# Altium footprint library Spadgenske.PcbLib: 18 footprints (part 1 of 2)
Each footprint in its own frame and in the unit in brackets; x right, y up, seen from the top. Pads: shape width x height; smd on the part's side, far side on the other; paste and mask are expansions set on the pad; w line width, h text height; cw(c..) or ccw(c..) is an arc to the next point about the centre after c.
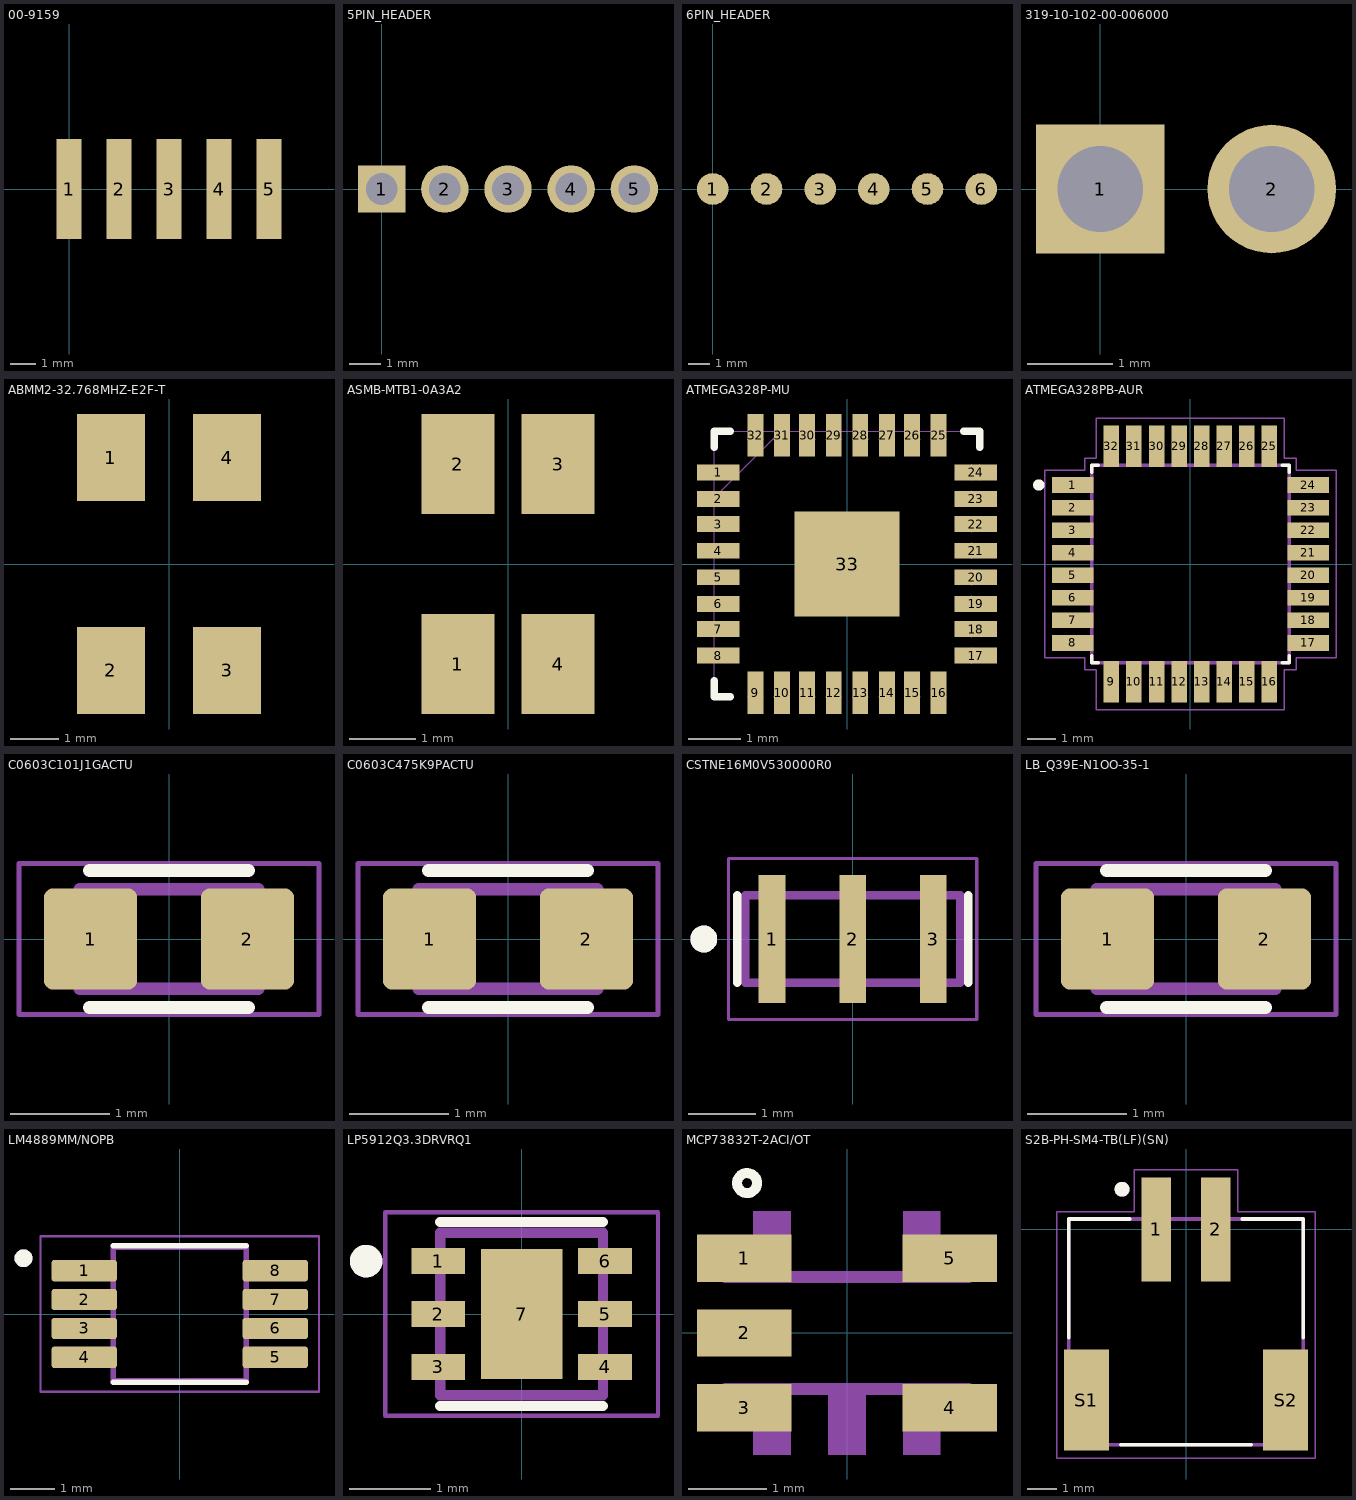
[diagram p0: the footprints below, top view; thin cyan lines are the x and y axes]

## 00-9159 [mm]
pads (5):
  rect 1x4 smd: 1(0,0) 2(2,0) 3(4,0) 4(6,0) 5(8,0)

## 5PIN_HEADER [mm]
pads (5):
  rect 1.5x1.5 hole 1: 1(0,0)
  round 1.5 hole 1: 2(2,0) 3(4,0) 4(6,0) 5(8,0)

## 6PIN_HEADER [mm]
pads (6):
  round 1.5 smd: 1(0,0) 2(2.54,0) 3(5.08,0) 4(7.62,0) 5(10.16,0) 6(12.7,0)

## 319-10-102-00-006000 [mm]
pads (2):
  rect 1.5x1.5 hole 1: 1(0,0)
  round 1.5 hole 1: 2(2,0)

## ABMM2-32.768MHZ-E2F-T [mm]
pads (4):
  rect 1.4x1.8 smd: 1(-1.2,2.2) 2(-1.2,-2.2) 3(1.2,-2.2) 4(1.2,2.2)

## ASMB-MTB1-0A3A2 [mm]
pads (4):
  rect 1.1x1.5 smd: 1(-0.75,-1.5) 2(-0.75,1.5) 3(0.75,1.5) 4(0.75,-1.5)

## ATMEGA328P-MU [mil]
pads (33):
  rect 32x12 smd mask+1.97: 1(-97,69) 2(-97,49) 3(-97,30) 4(-97,10) 5(-97,-10) 6(-97,-30) 7(-97,-49) 8(-97,-69) 17(97,-69) 18(97,-49) 19(97,-30) 20(97,-10) 21(97,10) 22(97,30) 23(97,49) 24(97,69)
  rect 12x32 smd mask+1.97: 9(-69,-97) 10(-49,-97) 11(-30,-97) 12(-10,-97) 13(10,-97) 14(30,-97) 15(49,-97) 16(69,-97) 25(69,97) 26(49,97) 27(30,97) 28(10,97) 29(-10,97) 30(-30,97) 31(-49,97) 32(-69,97)
  rect 78.74x78.74 smd: 33(0,0)
Top Overlay:
  lines w6: -100,-88 -100,-100 -88,-100 ; -100,88 -100,100 -88,100 ; 88,100 100,100 100,88
Mechanical 13:
  lines w0: -100,-100 -100,100 100,100 ; -100,-75 -100,-63 ; -100,-55 -100,-43 ; -100,-35 -100,-24 ; -100,-16 -100,-4 ; -100,4 -100,16 ; -100,24 -100,35 ; -100,43 -100,55 ; -100,50 -50,100 ; -100,63 -100,75 ; -75,94 -63,94 ; -75,100 -63,100 ; -55,-100 -43,-100 ; -55,94 -43,94 ; -55,100 -43,100 ; -35,-100 -24,-100 ; -35,94 -24,94 ; -16,-100 -4,-100 ; -16,94 -4,94 ; 4,-100 16,-100 ; 4,94 16,94 ; 24,-100 35,-100 ; 24,94 35,94 ; 43,-100 55,-100 ; 43,94 55,94 ; 63,-100 75,-100 ; 63,94 75,94 ; 94,-75 94,-63 ; 94,-55 94,-43 ; 94,-35 94,-24 ; 94,-16 94,-4 ; 94,4 94,16 ; 94,24 94,35 ; 94,43 94,55 ; 94,63 94,75 ; 100,63 100,75 ; -75,-100 -63,-100 -75,-100

## ATMEGA328PB-AUR [mm]
pads (32):
  rect 1.47x0.55 smd: 1(-4.17,2.8) 2(-4.17,2) 3(-4.17,1.2) 4(-4.17,0.4) 5(-4.17,-0.4) 6(-4.17,-1.2) 7(-4.17,-2) 8(-4.17,-2.8) 17(4.17,-2.8) 18(4.17,-2) 19(4.17,-1.2) 20(4.17,-0.4) 21(4.17,0.4) 22(4.17,1.2) 23(4.17,2) 24(4.17,2.8)
  rect 0.55x1.47 smd: 9(-2.8,-4.17) 10(-2,-4.17) 11(-1.2,-4.17) 12(-0.4,-4.17) 13(0.4,-4.17) 14(1.2,-4.17) 15(2,-4.17) 16(2.8,-4.17) 25(2.8,4.17) 26(2,4.17) 27(1.2,4.17) 28(0.4,4.17) 29(-0.4,4.17) 30(-1.2,4.17) 31(-2,4.17) 32(-2.8,4.17)
Top Overlay:
  circle w0.2: c-5.373,2.8 r0.1
  lines w0.127: -3.5,-3.26 -3.5,-3.5 -3.26,-3.5 ; -3.5,3.26 -3.5,3.5 -3.26,3.5 ; 3.26,-3.5 3.5,-3.5 3.5,-3.26 ; 3.26,3.5 3.5,3.5 3.5,3.26
Mechanical 13:
  lines w0.127: -3.5,-3.5 -3.5,3.5 3.5,3.5 3.5,-3.5 -3.5,-3.5
Mechanical 15:
  lines w0.05: -5.16,-3.33 -3.75,-3.33 -3.75,-3.75 -3.33,-3.75 -3.33,-5.16 3.33,-5.16 3.33,-3.75 3.75,-3.75 3.75,-3.33 5.16,-3.33 5.16,3.33 3.75,3.33 3.75,3.75 3.33,3.75 3.33,5.16 -3.33,5.16 -3.33,3.75 -3.75,3.75 -3.75,3.33 -5.16,3.33 -5.16,-3.33

## C0603C101J1GACTU [mm] "CAP CER 100PF 100V C0G/NP0 0603"
pads (2):
  rrect20% 0.94x1.02 smd: 1(-0.79,0) 2(0.79,0)
Top Overlay:
  lines w0.127: -0.8,-0.69 0.8,-0.69 ; -0.8,0.69 0.8,0.69
Mechanical 13:
  lines w0.127: -0.9,-0.5 0.9,-0.5 0.9,0.5 -0.9,0.5 -0.9,-0.5
Mechanical 15:
  lines w0.05: -1.51,-0.76 1.51,-0.76 1.51,0.76 -1.51,0.76 -1.51,-0.76

## C0603C475K9PACTU [mm]
pads (2):
  rrect20% 0.94x1.02 smd: 1(-0.79,0) 2(0.79,0)
Top Overlay:
  lines w0.127: -0.8,-0.69 0.8,-0.69 ; -0.8,0.69 0.8,0.69
Mechanical 13:
  lines w0.127: -0.9,-0.5 0.9,-0.5 0.9,0.5 -0.9,0.5 -0.9,-0.5
Mechanical 15:
  lines w0.05: -1.51,-0.76 1.51,-0.76 1.51,0.76 -1.51,0.76 -1.51,-0.76

## CSTNE16M0V530000R0 [mm]
pads (3):
  rect 0.4x1.9 smd: 1(-1.2,0) 2(0,0) 3(1.2,0)
Top Overlay:
  circle w0.2: c-2.22,0 r0.1
  lines w0.127: -1.72,-0.65 -1.72,0.65 ; 1.72,-0.65 1.72,0.65
Mechanical 13:
  circle w0.2: c-2.22,0 r0.1
  lines w0.127: -1.6,-0.65 -1.6,0.65 1.6,0.65 1.6,-0.65 -1.6,-0.65
Mechanical 15:
  lines w0.05: -1.85,-1.2 -1.85,1.2 1.85,1.2 1.85,-1.2 -1.85,-1.2
3D body "step_temp.STEP": height 1, standoff 0, extent -1.6,-0.65 1.6,0.65

## LB_Q39E-N1OO-35-1 [mm] "BLUE LED 0603"
pads (2):
  rrect20% 0.94x1.02 smd: 1(-0.79,0) 2(0.79,0)
Top Overlay:
  lines w0.127: -0.8,-0.69 0.8,-0.69 ; -0.8,0.69 0.8,0.69
Mechanical 13:
  lines w0.127: -0.9,-0.5 -0.9,0.5 0.9,0.5 0.9,-0.5 -0.9,-0.5
Mechanical 15:
  lines w0.05: -1.51,-0.76 -1.51,0.76 1.51,0.76 1.51,-0.76 -1.51,-0.76

## LM4889MM/NOPB [mm]
pads (8):
  rrect25% 1.47x0.48 smd: 1(-2.15,0.975) 2(-2.15,0.325) 3(-2.15,-0.325) 4(-2.15,-0.975) 5(2.15,-0.975) 6(2.15,-0.325) 7(2.15,0.325) 8(2.15,0.975)
Top Overlay:
  circle w0.2: c-3.52,1.255 r0.1
  lines w0.127: -1.5,-1.535 1.5,-1.535 ; -1.5,1.535 1.5,1.535
Mechanical 13:
  circle w0.2: c-3.52,1.255 r0.1
  lines w0.127: -1.5,-1.5 -1.5,1.5 1.5,1.5 1.5,-1.5 -1.5,-1.5
Mechanical 15:
  lines w0.05: -3.135,-1.75 -3.135,1.75 3.135,1.75 3.135,-1.75 -3.135,-1.75
3D body "step_temp.STEP": height 0.57, standoff -0.54, extent -2.45,-1.5 2.45,1.5

## LP5912Q3.3DRVRQ1 [mm]
pads (7):
  rect 0.66x0.32 smd: 1(-1.025,0.65) 2(-1.025,0) 3(-1.025,-0.65) 4(1.025,-0.65) 5(1.025,0) 6(1.025,0.65)
  rect 1x1.6 smd paste-2: 7(0,0)
Top Overlay:
  circle w0.2: c-1.91,0.65 r0.1
  lines w0.127: -1,-1.13 1,-1.13 ; -1,1.13 1,1.13
Top Paste:
  region: 0.316,-0.506 -0.316,-0.506 -0.316,0.506 0.316,0.506
Mechanical 13:
  circle w0.2: c-1.91,0.65 r0.1
  lines w0.127: -1,-1 -1,1 1,1 1,-1 -1,-1
Mechanical 15:
  lines w0.05: -1.675,-1.25 -1.675,1.25 1.675,1.25 1.675,-1.25 -1.675,-1.25
3D body "step_temp.STEP": height 0.8, standoff 0, extent -1,-1 1,1

## MCP73832T-2ACI/OT [mm]
pads (5):
  rect 1.2x0.6 smd: 1(-1.306,0.95) 2(-1.306,0) 3(-1.306,-0.95) 4(1.306,-0.95) 5(1.306,0.95)
Top Overlay:
  circle w0.127: c-1.27,1.905 r0.127
Mechanical 13:
  region: 1.188,-1.548 0.714,-1.548 0.714,-0.712 1.188,-0.712
  region: 0.238,-1.546 -0.238,-1.546 -0.238,-0.712 0.238,-0.712
  region: -0.713,-1.546 -1.189,-1.546 -1.189,-0.712 -0.713,-0.712
  region: 1.188,0.714 0.714,0.714 0.714,1.544 1.188,1.544
  region: -0.713,0.713 -1.188,0.713 -1.188,1.544 -0.713,1.544
  lines w0.152: -1.544,-0.712 1.544,-0.712 ; -1.544,0.713 1.544,0.713

## S2B-PH-SM4-TB(LF)(SN) [mm]
pads (4):
  rect 1x3.5 smd: 1(-1,0) 2(1,0)
  rect 1.5x3.4 smd: S1(-3.35,-5.75) S2(3.35,-5.75)
Top Overlay:
  circle w0.3: c-2.15,1.35 r0.1
  lines w0.127: -3.95,-3.65 -3.95,0.35 -1.9,0.35 ; -2.2,-7.25 2.2,-7.25 ; 1.9,0.35 3.95,0.35 3.95,-3.65
Mechanical 13:
  circle w0.3: c-2.15,1.35 r0.1
  lines w0.127: -3.95,-7.25 -3.95,0.35 3.95,0.35 3.95,-7.25 -3.95,-7.25
Mechanical 15:
  lines w0.05: -4.35,-7.7 -4.35,0.6 -1.75,0.6 -1.75,2 1.75,2 1.75,0.6 4.35,0.6 4.35,-7.7 -4.35,-7.7